# EAGLE library part 2X20/90_1MM27_HARWIN_M50-3202045 (library df4iah_connector)
Header 20X2 1.27mm M50-3202045 Archer, 90°
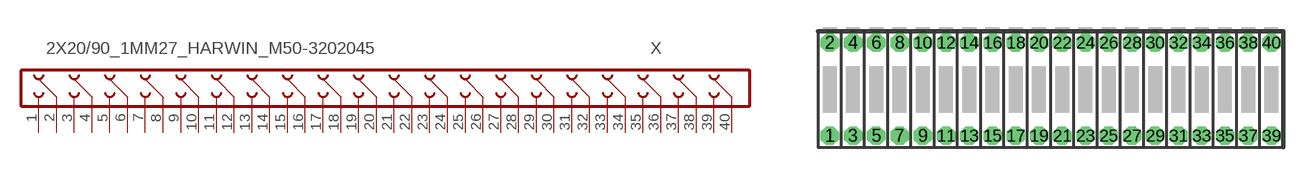
[diagram p18: symbol with the pads of 2X20/90_1MM27_HARWIN_M50-3202045; footprint 2X20/90_1MM27_HARWIN_M50-3202045]

Designator prefix X

## 2X20/90_1MM27_HARWIN_M50-3202045  [2X20/90_1MM27_HARWIN_M50-3202045]
1  1  pas
2  2  pas
3  3  pas
4  4  pas
5  5  pas
6  6  pas
7  7  pas
8  8  pas
9  9  pas
10  10  pas
11  11  pas
12  12  pas
13  13  pas
14  14  pas
15  15  pas
16  16  pas
17  17  pas
18  18  pas
19  19  pas
20  20  pas
21  21  pas
22  22  pas
23  23  pas
24  24  pas
25  25  pas
26  26  pas
27  27  pas
28  28  pas
29  29  pas
30  30  pas
31  31  pas
32  32  pas
33  33  pas
34  34  pas
35  35  pas
36  36  pas
37  37  pas
38  38  pas
39  39  pas
40  40  pas

## Footprint 2X20/90_1MM27_HARWIN_M50-3202045 (pad centres in mm)
Header 20X2 1.27mm M50-3202045 Archer, 90°
drill 0.5 pad 0.762 octagon: 1 -12.7,-2.54; 2 -12.7,2.54; 3 -11.43,-2.54; 4 -11.43,2.54; 5 -10.16,-2.54; 6 -10.16,2.54; 7 -8.89,-2.54; 8 -8.89,2.54; 9 -7.62,-2.54; 10 -7.62,2.54; 11 -6.35,-2.54; 12 -6.35,2.54; 13 -5.08,-2.54; 14 -5.08,2.54; 15 -3.81,-2.54; 16 -3.81,2.54; 17 -2.54,-2.54; 18 -2.54,2.54; 19 -1.27,-2.54; 20 -1.27,2.54; 21 0,-2.54; 22 0,2.54; 23 1.27,-2.54; 24 1.27,2.54; 25 2.54,-2.54; 26 2.54,2.54; 27 3.81,-2.54; 28 3.81,2.54; 29 5.08,-2.54; 30 5.08,2.54; 31 6.35,-2.54; 32 6.35,2.54; 33 7.62,-2.54; 34 7.62,2.54; 35 8.89,-2.54; 36 8.89,2.54; 37 10.16,-2.54; 38 10.16,2.54; 39 11.43,-2.54; 40 11.43,2.54